# EAGLE library part MOTION-L3GD20H(LGA16-3X3MM) (library Seeed-OPL-sensor)
314080018
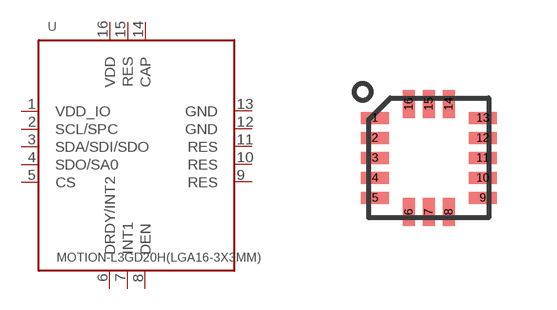
[diagram p8: symbol with the pads of LGA16-0.5-3X3MM; footprint LGA16-0.5-3X3MM]

Designator prefix U

## MOTION-L3GD20H(LGA16-3X3MM) (MPN: L3GD20H)  [LGA16-0.5-3X3MM]
1  VDD_IO
2  SCL/SPC
3  SDA/SDI/SDO
4  SDO/SA0
5  CS
6  DRDY/INT2
7  INT1  sup
8  DEN  in
9  RES
10  RES
11  RES  sup
12  GND  out
13  GND  in
14  CAP  in
15  RES  in
16  VDD  out

## Footprint LGA16-0.5-3X3MM (pad centres in mm)
smd 0.7 x 0.3: 1 -1.35,1; 2 -1.35,0.5; 3 -1.35,0; 4 -1.35,-0.5; 5 -1.35,-1; 9 1.35,-1; 10 1.35,-0.5; 11 1.35,0; 12 1.35,0.5; 13 1.35,1
smd 0.3 x 0.7: 6 -0.5,-1.35; 7 0,-1.35; 8 0.5,-1.35; 14 0.5,1.35; 15 0,1.35; 16 -0.5,1.35